# Altium footprint library LPC824+RC663.PcbLib: 34 footprints (part 3 of 3)
Each footprint in its own frame and in the unit in brackets; x right, y up, seen from the top. Pads: shape width x height; smd on the part's side, far side on the other; paste and mask are expansions set on the pad; w line width, h text height; cw(c..) or ccw(c..) is an arc to the next point about the centre after c.
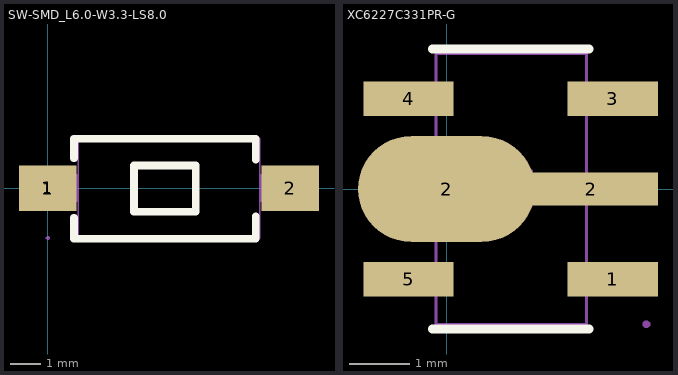
[diagram p2: the footprints below, top view; thin cyan lines are the x and y axes]

## SW-SMD_L6.0-W3.3-LS8.0 [mm]
pads (3):
  rect 1.9x1.5 smd: 1(0,0) 2(8,0)
  rect 1.07x0.6 smd: 1(0,0)
Top Overlay:
  lines w0.254: 0.863,-0.981 0.863,-1.668 6.863,-1.668 6.863,-0.935 ; 0.863,0.981 0.863,1.632 6.863,1.632 6.863,0.935 ; 2.847,-0.78 2.847,0.744 4.879,0.744 4.879,-0.78 2.847,-0.78
Mechanical 15:
  region: 0.061,-1.65 0.061,-1.625 0.026,-1.59 -0.024,-1.59 -0.059,-1.625 -0.059,-1.65 -0.059,-1.675 -0.024,-1.71 0.026,-1.71 0.061,-1.675
  region: 7.3,-0.45 7.3,0.45 8,0.45 8,-0.45
  region: 0.38,-0.45 0.38,0.45 1.01,0.45 1.01,-0.45
  region: 7.62,0.45 7.62,-0.45 6.99,-0.45 6.99,0.45
  region: 0.001,-0.45 0.001,0.45 0.701,0.45 0.701,-0.45
  lines w0.051: 1,-1.65 7,-1.65 7,1.65 1,1.65 1,-1.65

## XC6227C331PR-G [mm]
pads (6):
  rect 1.5x0.574 smd paste-100 mask+0.051: 1(2.765,-1.5) 3(2.765,1.5) 4(-0.63,1.5) 5(-0.63,-1.5)
  oval 2.94x1.76 smd paste-100 mask+0.051: 2(0,0)
  rect 2.209x0.552 smd paste-100 mask+0.051: 2(2.41,0)
Top Overlay:
  lines w0.152: -0.234,-2.326 2.369,-2.326 ; -0.234,2.326 2.369,2.326
Top Paste:
  region: -1.472,0 -1.472,-0.05 -1.468,-0.131 -1.43,-0.287 -1.364,-0.434 -1.273,-0.567 -1.159,-0.681 -1.026,-0.772 -0.879,-0.838 -0.723,-0.876 -0.642,-0.88 0.658,-0.88 0.828,-0.88 0.934,-0.849 1.126,-0.736 1.283,-0.579 1.397,-0.387 1.428,-0.28 3.518,-0.28 3.518,0.28 1.428,0.28 1.397,0.387 1.283,0.578 1.126,0.736 0.934,0.849 0.828,0.88 0.628,0.88 -0.592,0.88 -0.679,0.88 -0.849,0.846 -1.009,0.78 -1.153,0.683 -1.276,0.561 -1.372,0.417 -1.439,0.257 -1.472,0.087 -1.472,0
  region: 0.12,1.213 0.12,1.787 -1.38,1.787 -1.38,1.213
  region: 0.12,-1.787 0.12,-1.213 -1.38,-1.213 -1.38,-1.787
  region: 3.515,1.213 3.515,1.787 2.015,1.787 2.015,1.213
  region: 3.515,-1.787 3.515,-1.213 2.015,-1.213 2.015,-1.787
Mechanical 2:
  circle w0.254: c3.16,-1.511 r0.127
Mechanical 6:
  lines w0.051: -0.172,-2.25 2.327,-2.251 2.327,2.251 -0.173,2.251 -0.172,-2.25
Mechanical 8:
  region: 3.385,-2.251 3.385,-2.276 3.349,-2.311 3.3,-2.311 3.265,-2.276 3.265,-2.251 3.265,-2.227 3.3,-2.191 3.349,-2.191 3.385,-2.227 3.385,-2.251
Mechanical 9:
  region: 1.425,0.2 3.325,0.2 3.325,-0.2 1.425,-0.2
  region: -0.171,0.801 -0.472,0.801 -0.473,0.8 -0.772,0.5 -0.772,-0.5 -0.472,-0.799 -0.172,-0.8 0.829,-0.785 1.424,-0.291 1.432,0.312 0.688,0.776
  region: 2.304,1.71 3.304,1.71 3.304,1.29 2.304,1.29
  region: 2.305,-1.293 3.305,-1.293 3.305,-1.713 2.305,-1.713
  region: -1.163,-1.29 -0.163,-1.29 -0.163,-1.71 -1.163,-1.71
  region: -1.163,1.71 -0.163,1.71 -0.163,1.29 -1.163,1.29